# EAGLE library part MK22DXXXXVLF5 (library poli-MK22)
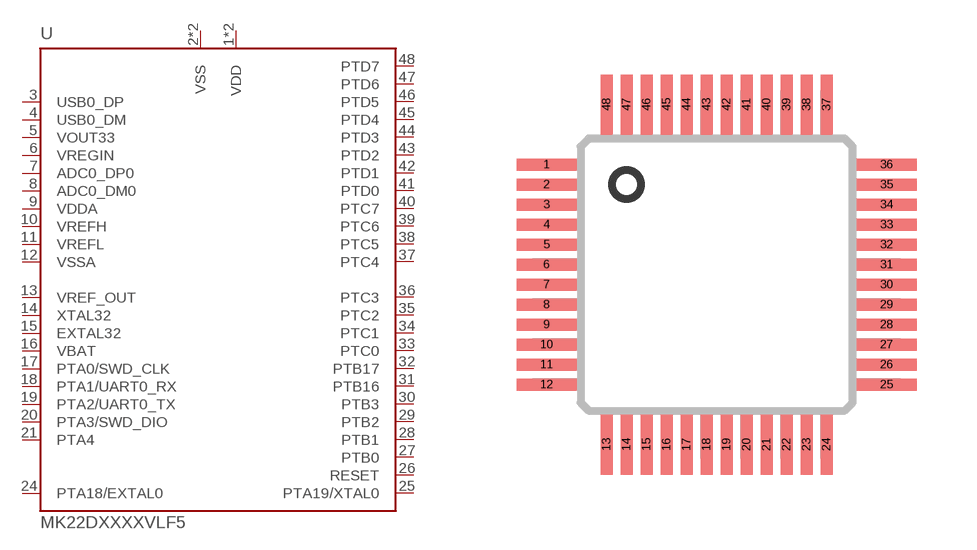
[diagram p0: symbol with the pads of TQFP48_7X7; footprint TQFP48_7X7]

Designator prefix -

## MK22DXXXXVLF5  [TQFP48_7X7]
1  VDD  pwr
2  VSS  pwr
3  USB0_DP
4  USB0_DM
5  VOUT33  out
6  VREGIN  pwr
7  ADC0_DP0  in
8  ADC0_DM0  in
9  VDDA  pwr
10  VREFH  in
11  VREFL  in
12  VSSA  pwr
13  VREF_OUT  out
14  XTAL32
15  EXTAL32
16  VBAT  pwr
17  PTA0/SWD_CLK
18  PTA1/UART0_RX
19  PTA2/UART0_TX
20  PTA3/SWD_DIO
21  PTA4
22  VDD  pwr
23  VSS  pwr
24  PTA18/EXTAL0
25  PTA19/XTAL0
26  RESET
27  PTB0
28  PTB1
29  PTB2
30  PTB3
31  PTB16
32  PTB17
33  PTC0
34  PTC1
35  PTC2
36  PTC3
37  PTC4
38  PTC5
39  PTC6
40  PTC7
41  PTD0
42  PTD1
43  PTD2
44  PTD3
45  PTD4
46  PTD5
47  PTD6
48  PTD7

## Footprint TQFP48_7X7 (pad centres in mm)
48-Pin LQFP (Case #932)
smd 1.5 x 0.3: 1 -4.25,2.75; 2 -4.25,2.25; 3 -4.25,1.75; 4 -4.25,1.25; 5 -4.25,0.75; 6 -4.25,0.25; 7 -4.25,-0.25; 8 -4.25,-0.75; 9 -4.25,-1.25; 10 -4.25,-1.75; 11 -4.25,-2.25; 12 -4.25,-2.75; 25 4.25,-2.75; 26 4.25,-2.25; 27 4.25,-1.75; 28 4.25,-1.25; 29 4.25,-0.75; 30 4.25,-0.25; 31 4.25,0.25; 32 4.25,0.75; 33 4.25,1.25; 34 4.25,1.75; 35 4.25,2.25; 36 4.25,2.75
smd 0.3 x 1.5: 13 -2.75,-4.25; 14 -2.25,-4.25; 15 -1.75,-4.25; 16 -1.25,-4.25; 17 -0.75,-4.25; 18 -0.25,-4.25; 19 0.25,-4.25; 20 0.75,-4.25; 21 1.25,-4.25; 22 1.75,-4.25; 23 2.25,-4.25; 24 2.75,-4.25; 37 2.75,4.25; 38 2.25,4.25; 39 1.75,4.25; 40 1.25,4.25; 41 0.75,4.25; 42 0.25,4.25; 43 -0.25,4.25; 44 -0.75,4.25; 45 -1.25,4.25; 46 -1.75,4.25; 47 -2.25,4.25; 48 -2.75,4.25